# Altium footprint library BAT_2987.PcbLib: 1 footprints
Each footprint in its own frame and in the unit in brackets; x right, y up, seen from the top. Pads: shape width x height; smd on the part's side, far side on the other; paste and mask are expansions set on the pad; w line width, h text height; cw(c..) or ccw(c..) is an arc to the next point about the centre after c.
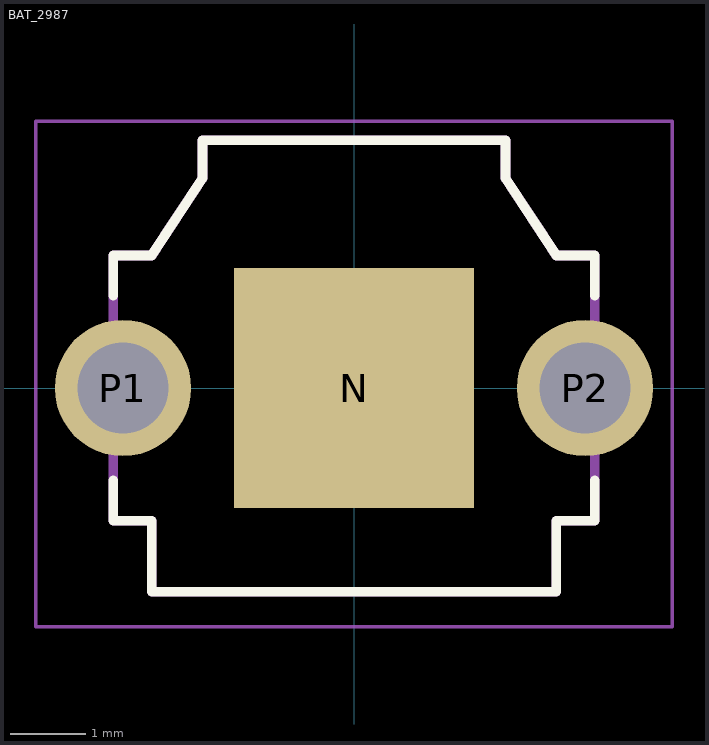
[diagram p0: the footprint, top view; thin cyan lines are the x and y axes]

## BAT_2987 [mm]
height 2.92
pads (3):
  rect 3.17x3.17 smd paste-3: N(0,0)
  round 1.8 hole 1.2: P1(-3.05,0) P2(3.05,0)
Top Overlay:
  lines w0.127: -3.18,-1.22 -3.18,-1.75 -2.67,-1.75 -2.67,-2.69 2.67,-2.69 2.67,-1.75 3.18,-1.75 3.18,-1.22 ; -3.18,1.22 -3.18,1.75 -2.67,1.75 -2,2.77 -2,3.27 2,3.27 2,2.77 2.67,1.75 3.18,1.75 3.18,1.22
Mechanical 13:
  lines w0.127: -3.18,-1.75 -3.18,1.75 -2.67,1.75 -2,2.77 -2,3.27 2,3.27 2,2.77 2.67,1.75 3.18,1.75 3.18,-1.75 2.67,-1.75 2.67,-2.69 -2.67,-2.69 -2.67,-1.75 -3.18,-1.75
Mechanical 15:
  lines w0.05: -4.2,-3.15 4.2,-3.15 4.2,3.52 -4.2,3.52 -4.2,-3.15
3D body "2987--3DModel-STEP-630548.STEP": height 2.79, standoff -2.36, extent -3.432,-3.175 3.432,2.788